# EAGLE library part 1986ВЕ93У (library mcu)
АЕЯР.431290.711 ТУ 1986ВЕ93У - это 32-разрядный микроконтроллер на ядре Cortex-M3 с тактовой частотой до 80 МГц. Содержит 128 Кбайт Flash памяти программ и 32 Кбайта ОЗУ. Производитель: АО "ПКК "Миландр", г. Москва, Зеленоград. Технические условия: АЕЯР.431290.711 ТУ
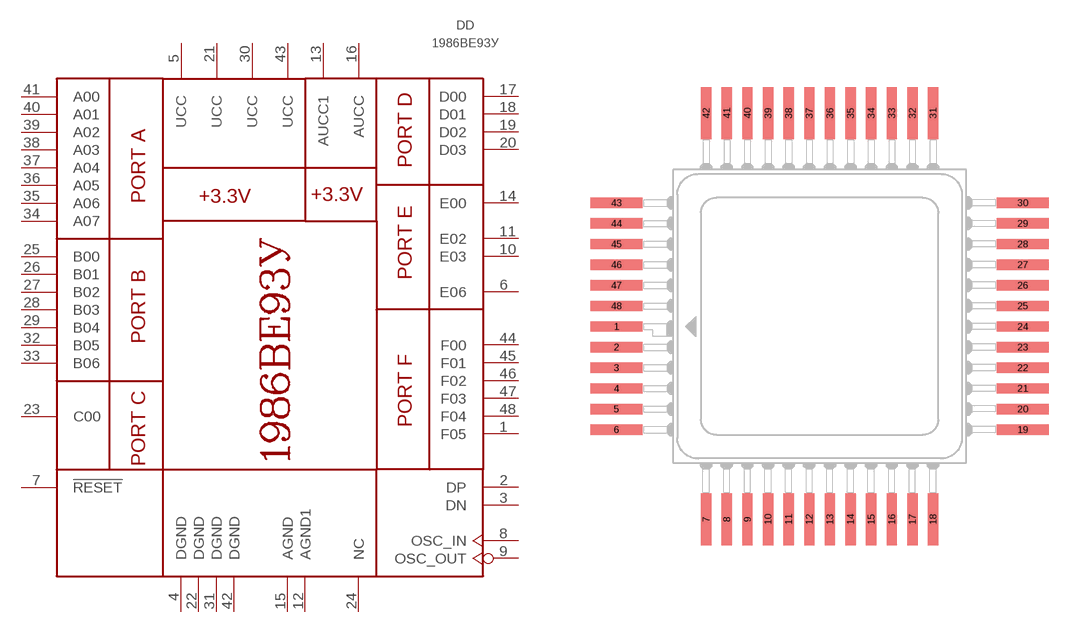
[diagram p6: symbol with the pads of Н16.48-1В; footprint Н16.48-1В]

Designator prefix DD

## 1986ВЕ93У  [Н16.48-1В]
1  F05
2  DP
3  DN
4  DGND  pwr
5  UCC  pwr
6  E06
7  !RESET
8  OSC_IN  in
9  OSC_OUT  out
10  E03
11  E02
12  AGND1  pwr
13  AUCC1  pwr
14  E00
15  AGND  pwr
16  AUCC  pwr
17  D00
18  D01
19  D02
20  D03
21  UCC  pwr
22  DGND  pwr
23  C00
24  NC  nc
25  B00
26  B01
27  B02
28  B03
29  B04
30  UCC  pwr
31  DGND  pwr
32  B05
33  B06
34  A07
35  A06
36  A05
37  A04
38  A03
39  A02
40  A01
41  A00
42  DGND  pwr
43  UCC  pwr
44  F00
45  F01
46  F02
47  F03
48  F04

## Footprint Н16.48-1В (pad centres in mm)
smd 2.5 x 0.5: 1 -9.85,-0.5; 2 -9.85,-1.5; 3 -9.85,-2.5; 4 -9.85,-3.5; 5 -9.85,-4.5; 6 -9.85,-5.5; 19 9.85,-5.5; 20 9.85,-4.5; 21 9.85,-3.5; 22 9.85,-2.5; 23 9.85,-1.5; 24 9.85,-0.5; 25 9.85,0.5; 26 9.85,1.5; 27 9.85,2.5; 28 9.85,3.5; 29 9.85,4.5; 30 9.85,5.5; 43 -9.85,5.5; 44 -9.85,4.5; 45 -9.85,3.5; 46 -9.85,2.5; 47 -9.85,1.5; 48 -9.85,0.5
smd 0.5 x 2.5: 7 -5.5,-9.85; 8 -4.5,-9.85; 9 -3.5,-9.85; 10 -2.5,-9.85; 11 -1.5,-9.85; 12 -0.5,-9.85; 13 0.5,-9.85; 14 1.5,-9.85; 15 2.5,-9.85; 16 3.5,-9.85; 17 4.5,-9.85; 18 5.5,-9.85; 31 5.5,9.85; 32 4.5,9.85; 33 3.5,9.85; 34 2.5,9.85; 35 1.5,9.85; 36 0.5,9.85; 37 -0.5,9.85; 38 -1.5,9.85; 39 -2.5,9.85; 40 -3.5,9.85; 41 -4.5,9.85; 42 -5.5,9.85